# Altium footprint library leds.PcbLib: 51 footprints (part 2 of 4)
Each footprint in its own frame and in the unit in brackets; x right, y up, seen from the top. Pads: shape width x height; smd on the part's side, far side on the other; paste and mask are expansions set on the pad; w line width, h text height; cw(c..) or ccw(c..) is an arc to the next point about the centre after c.
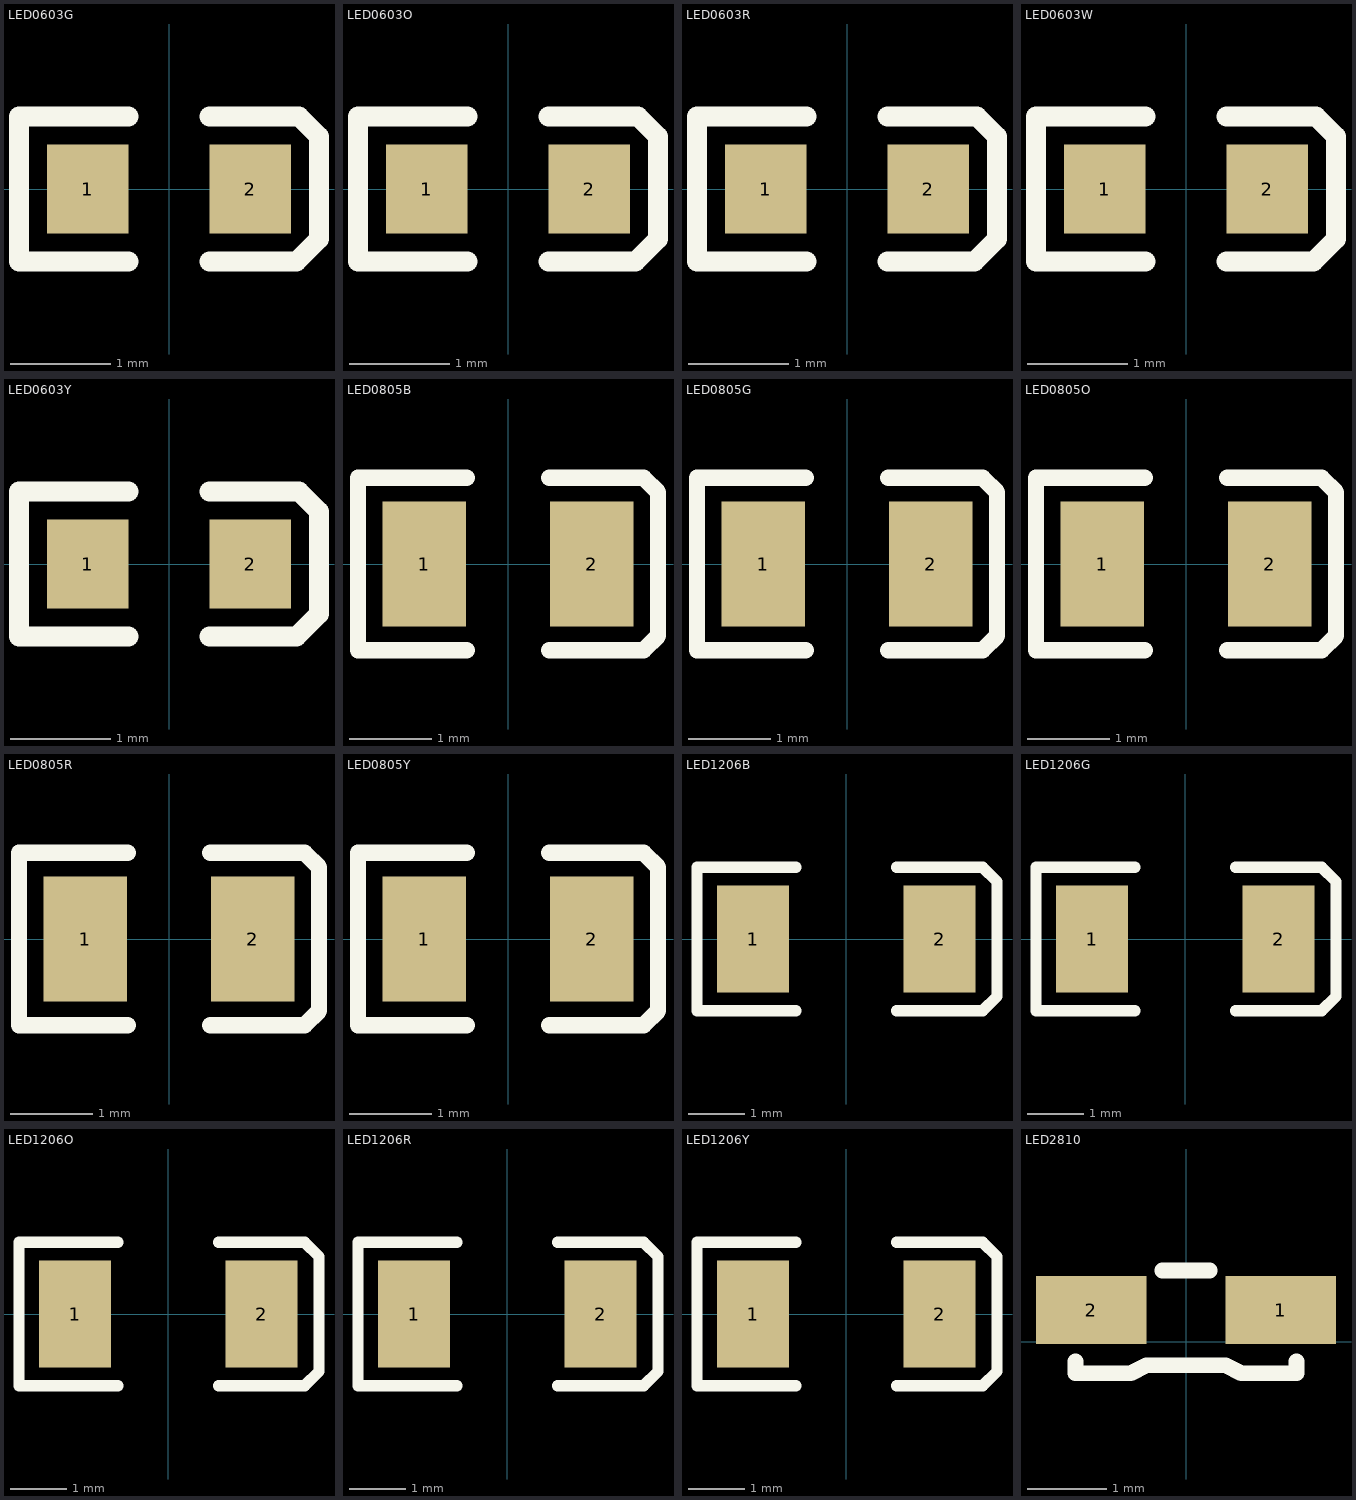
[diagram p1: the footprints below, top view; thin cyan lines are the x and y axes]

## LED0603G [mil]
pads (2):
  rect 32x35 smd: 1(-32,0) 2(32,0)
Top Overlay:
  lines w7.87: -16,-28.54 -59.06,-28.54 -59.06,28.54 -16,28.54 ; 16,-28.54 50.2,-28.54 59.06,-19.69 59.06,20.67 51.18,28.54 16,28.54
3D body "User Library-led_0603_green.step": height 23.62, standoff 0, extent -31.89,-15.75 31.89,15.74

## LED0603O [mil]
pads (2):
  rect 32x35 smd: 1(-32,0) 2(32,0)
Top Overlay:
  lines w7.87: -16,-28.54 -59.06,-28.54 -59.06,28.54 -16,28.54 ; 16,-28.54 50.2,-28.54 59.06,-19.69 59.06,20.67 51.18,28.54 16,28.54
3D body "User Library-led_0603-orange.step": height 23.62, standoff 0, extent -31.89,-15.75 31.89,15.74

## LED0603R [mil]
pads (2):
  rect 32x35 smd: 1(-32,0) 2(32,0)
Top Overlay:
  lines w7.87: -16,-28.54 -59.06,-28.54 -59.06,28.54 -16,28.54 ; 16,-28.54 50.2,-28.54 59.06,-19.69 59.06,20.67 51.18,28.54 16,28.54
3D body "User Library-led_0603-red.step": height 23.62, standoff 0, extent -31.89,-15.75 31.89,15.75

## LED0603W [mil]
pads (2):
  rect 32x35 smd: 1(-32,0) 2(32,0)
Top Overlay:
  lines w7.87: -16,-28.54 -59.06,-28.54 -59.06,28.54 -16,28.54 ; 16,-28.54 50.2,-28.54 59.06,-19.69 59.06,20.67 51.18,28.54 16,28.54
3D body "User Library-led_0603 (1).STEP": height 23.62, standoff 0, extent -31.9,-15.76 31.89,15.74

## LED0603Y [mil]
pads (2):
  rect 32x35 smd: 1(-32,0) 2(32,0)
Top Overlay:
  lines w7.87: -16,-28.54 -59.06,-28.54 -59.06,28.54 -16,28.54 ; 16,-28.54 50.2,-28.54 59.06,-19.69 59.06,20.67 51.18,28.54 16,28.54
3D body "User Library-led_0603-yellow.step": height 23.62, standoff 0, extent -31.89,-15.75 31.89,15.74

## LED0805B [mil]
height 49.21
pads (2):
  rect 40x60 smd: 1(-40,0) 2(40,0)
Top Overlay:
  lines w7.87: -19.68,-41.34 -71.85,-41.34 -71.85,41.34 -19.68,41.34 ; 19.68,-41.34 64.96,-41.34 71.85,-34.45 71.85,34.45 64.96,41.34 19.68,41.34
3D body "User Library-led_0805 (2).step": height 43.31, standoff 0, extent -39.76,-24.6 39.76,24.6

## LED0805G [mil]
height 49.21
pads (2):
  rect 40x60 smd: 1(-40,0) 2(40,0)
Top Overlay:
  lines w7.87: -19.68,-41.34 -71.85,-41.34 -71.85,41.34 -19.68,41.34 ; 19.68,-41.34 64.96,-41.34 71.85,-34.45 71.85,34.45 64.96,41.34 19.68,41.34
3D body "User Library-led_0805 (1).step": height 43.31, standoff 0, extent -39.76,-24.6 39.76,24.6

## LED0805O [mil]
height 49.21
pads (2):
  rect 40x60 smd: 1(-40,0) 2(40,0)
Top Overlay:
  lines w7.87: -19.68,-41.34 -71.85,-41.34 -71.85,41.34 -19.68,41.34 ; 19.68,-41.34 64.96,-41.34 71.85,-34.45 71.85,34.45 64.96,41.34 19.68,41.34
3D body "User Library-led_0805 (4).step": height 43.31, standoff 0, extent -39.77,-24.61 39.76,24.6

## LED0805R [mil]
height 49.21
pads (2):
  rect 40x60 smd: 1(-40,0) 2(40,0)
Top Overlay:
  lines w7.87: -19.68,-41.34 -71.85,-41.34 -71.85,41.34 -19.68,41.34 ; 19.68,-41.34 64.96,-41.34 71.85,-34.45 71.85,34.45 64.96,41.34 19.68,41.34
3D body "User Library-led_0805.step": height 43.31, standoff 0, extent -39.76,-24.61 39.76,24.6

## LED0805Y [mil]
height 49.21
pads (2):
  rect 40x60 smd: 1(-40,0) 2(40,0)
Top Overlay:
  lines w7.87: -19.68,-41.34 -71.85,-41.34 -71.85,41.34 -19.68,41.34 ; 19.68,-41.34 64.96,-41.34 71.85,-34.45 71.85,34.45 64.96,41.34 19.68,41.34
3D body "User Library-led_0805.step": height 43.31, standoff 0, extent -39.77,-24.61 39.76,24.6

## LED1206B [mm]
height 2.2
pads (2):
  rect 1.27x1.9 smd: 1(-1.65,0) 2(1.65,0)
Top Overlay:
  lines w0.2: -0.889,-1.27 -2.642,-1.27 -2.642,1.27 -0.889,1.27 ; 0.889,-1.27 2.413,-1.27 2.667,-1.016 2.667,1.016 2.413,1.27 0.889,1.27
3D body "User Library-led_1206.step": height 1.1, standoff 0, extent -1.61,-0.8 1.61,0.8

## LED1206G [mm]
height 2.2
pads (2):
  rect 1.27x1.9 smd: 1(-1.65,0) 2(1.65,0)
Top Overlay:
  lines w0.2: -0.889,-1.27 -2.642,-1.27 -2.642,1.27 -0.889,1.27 ; 0.889,-1.27 2.413,-1.27 2.667,-1.016 2.667,1.016 2.413,1.27 0.889,1.27
3D body "User Library-led_1206 (1).step": height 1.1, standoff 0, extent -1.61,-0.8 1.61,0.8

## LED1206O [mm]
height 2.2
pads (2):
  rect 1.27x1.9 smd: 1(-1.65,0) 2(1.65,0)
Top Overlay:
  lines w0.2: -0.889,-1.27 -2.642,-1.27 -2.642,1.27 -0.889,1.27 ; 0.889,-1.27 2.413,-1.27 2.667,-1.016 2.667,1.016 2.413,1.27 0.889,1.27
3D body "User Library-led_1206 (4).step": height 1.1, standoff 0, extent -1.61,-0.8 1.61,0.8

## LED1206R [mm]
height 2.2
pads (2):
  rect 1.27x1.9 smd: 1(-1.65,0) 2(1.65,0)
Top Overlay:
  lines w0.2: -0.889,-1.27 -2.642,-1.27 -2.642,1.27 -0.889,1.27 ; 0.889,-1.27 2.413,-1.27 2.667,-1.016 2.667,1.016 2.413,1.27 0.889,1.27
3D body "User Library-led_1206 (2).step": height 1.1, standoff 0, extent -1.61,-0.8 1.61,0.8

## LED1206Y [mm]
height 2.2
pads (2):
  rect 1.27x1.9 smd: 1(-1.65,0) 2(1.65,0)
Top Overlay:
  lines w0.2: -0.889,-1.27 -2.642,-1.27 -2.642,1.27 -0.889,1.27 ; 0.889,-1.27 2.413,-1.27 2.667,-1.016 2.667,1.016 2.413,1.27 0.889,1.27
3D body "User Library-led_1206 (3).step": height 1.1, standoff 0, extent -1.61,-0.8 1.61,0.8

## LED2810 [mm] "SMD 2810 LED case (for e.g. Kingbright KA-2810 series)"
height 0.8
pads (2):
  rect 1.4x0.86 smd: 1(1.2,0.4) 2(-1.2,0.4)
Top Overlay:
  lines w0.2: -1.4,-0.25 -1.4,-0.4 -0.7,-0.4 -0.5,-0.3 0.4,-0.3 0.5,-0.3 0.7,-0.4 1.4,-0.4 1.4,-0.25 ; -0.3,0.9 0.3,0.9
3D body: height 0.8, standoff 0, extent -1.4,-0.4 1.4,0.9